# EAGLE library part TLF50211EL (library TLF50211EL)
TLF50211EL 2.2 MHz Step-Down Regulator 500 mA, 5 V, low quiescent current https://www.infineon.com/dgdl/Infineon-TLF50211EL-DS-v01_10-EN.pdf?fileId=5546d46258fc0bc1015969d2af9641e9
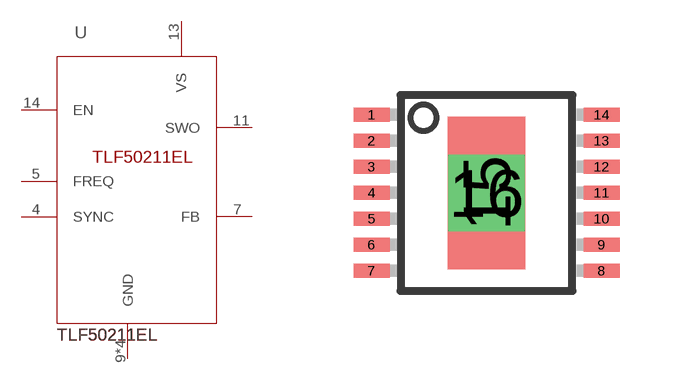
[diagram p0: symbol with the pads of TSSOP-14; footprint TSSOP-14]

Designator prefix -

## TLF50211EL  [TSSOP-14]
4  SYNC
5  FREQ
7  FB
9  GND
10  GND
11  SWO
13  VS
14  EN
15  GND
16  GND

## Footprint TSSOP-14 (pad centres in mm)
14-Lead Thin Shrink Small Outline Package [TSSOP] Source: Analog Devices .. 780914713ADD8704_0.pdf
smd 0.9 x 0.35: 1 -2.875,1.95; 2 -2.875,1.3; 3 -2.875,0.65; 4 -2.875,0; 5 -2.875,-0.65; 6 -2.875,-1.3; 7 -2.875,-1.95; 8 2.875,-1.95; 9 2.875,-1.3; 10 2.875,-0.65; 11 2.875,0; 12 2.875,0.65; 13 2.875,1.3; 14 2.875,1.95
smd 1.93 x 3.81: 15 0,0
drill 1.27 square: 16 0,0